# Altium schematic symbol library OOLITEV8_0_2-DEV-V1_1_17_Library.SchLib: 269 symbols (part 12 of 12)

## RTL8367RB_LQFP128EP_0
designator U?, comment RTL8367RB_LQFP128EP
pins: 1 AVDDH (power), 2 P3MDIAP (io), 3 P3MDIAN (io), 4 P3MDIBP (io), 5 P3MDIBN (io), 6 AVDDL (power), 7 P3MDICP (io), 8 P3MDICN (io), 9 P3MDIDP (io), 10 P3MDIDN (io), 11 AVDDH (power), 12 AGND (power), 13 MDIREF (oe), 14 AVDDL (power), 15 RTT1 (out), 16 RTT2 (out), 17 AVDDH (power), 18 DVDDIO (power), 19 INTERRUPT (out), 20 DIS_LPD / BUZZER (io), 21 DVDDL (power), 22 RESERVED (power), 23 AVDDH (power), 24 P4MDIAP (io), 25 P4MDIAN (io), 26 P4MDIBP (io), 27 P4MDIBN (io), 28 AVDDL (power), 29 P4MDICP (io), 30 P4MDICN (io), 31 P4MDIDP (io), 32 P4MDIDN (io), 33 AVDDH, 34 PLLVDDL1, 35 RESREVED (power), 36 AVDDH (power), 37 RESERVED (out), 38 RESERVED, 39 DVDDIO_2 (power), 40 RESERVED (power), 41 E2_DO3 (out), 42 E2_DO2 (out), 43 E2_DO1 (out), 44 E2_DO0 (out), 45 E2_DOEN (out), 46 E2_GOCLK (out), 47 E2_DICLK, 48 E2_DIDV (in), 49 E2_DI0 (in), 50 E2_DI1 (in), 51 E2_DI2 (in), 52 E2_DI3 (in), 53 DVDDL (power), 54 DVDDIO_2 (power), 55 DVDDIO_1 (in), 56 E1_CRS (in), 57 E1_DO3 (out), 58 E1_DO2 (out), 59 E1_DO1 (out), 60 E1_DO0 (out), 61 E1_DOEN (out), 62 E1_GOCLK (out), 63 E1_DICLK (in), 64 E1_DIDV (in), 65 E1_DI0 (in), 66 E1_DI1 (in), 67 E1_DI2 (in), 68 E1_DI3 (in), 69 DVDDIO_1 (power), 70 DVDDIO (power), 71 DVDDL (power), 72 DIS_SPIS / P4LED2 (out), 73 EEPROM_MOD / P4LED0 (out), 74 P4LED1 (out), 75 P3LED1 (out), 76 RESERVED / P3LED2 (out), 77 RESERVED / P3LED0 (out), 78 DIS_8051 / P2LED2 (out), 79 DISAUTOLOAD / P2LED0 (out), 80 P2LED1 (out), 81 RESERVED / P1LED2 (out), 82 RESERVED / P1LED0 (out), 83 P1LED1 (out), 84 EN_PHY / P0LED2 (out), 85 LED_DA / P0LED1 (out), 86 SMI_SEL / LED_CK / P0LED0 (out), 87 DVDDL (power), 88 AVDDH (power), 89 XTALO (out), 90 XTALI (in), 91 nRESET (in), 92 SPIS_CSI (power), 93 SCK / SPIS_CK (io), 94 SDA / SPIS_DI (io), 95 SPIS_DO (power), 96 AVDDH (power), 97 P0MDIAP (io), 98 P0MDIAN (io), 99 P0MDIBP (io), 100 P0MDIBN (io), 101 AVDDL (power), 102 P0MDICP (io), 103 P0MDICN (io), 104 P0MDIDP (io), 105 P0MDIDN (io), 106 AVDDH (power), 107 P1MDIAP (io), 108 P1MDIAN (io), 109 P1MDIBP (io), 110 P1MDIBN (io), 111 AVDDL (power), 112 P1MDICP (io), 113 P1MDICN (io), 114 P1MDIDP (io), 115 P1MDIDN (io), 116 PLLVDDL0 (power), 117 ATESTCK0 (power), 118 PLLGND0 (power), 119 AVDDH (power), 120 P2MDIAP (io), 121 P2MDIAN (io), 122 P2MDIBP (io), 123 P2MDIBN (io), 124 AVDDL (power), 125 P2MDICP (io), 126 P2MDICN (io), 127 P2MDIDP (io), 128 P2MDIDN (io), 129 GND
text: RTL8367RB

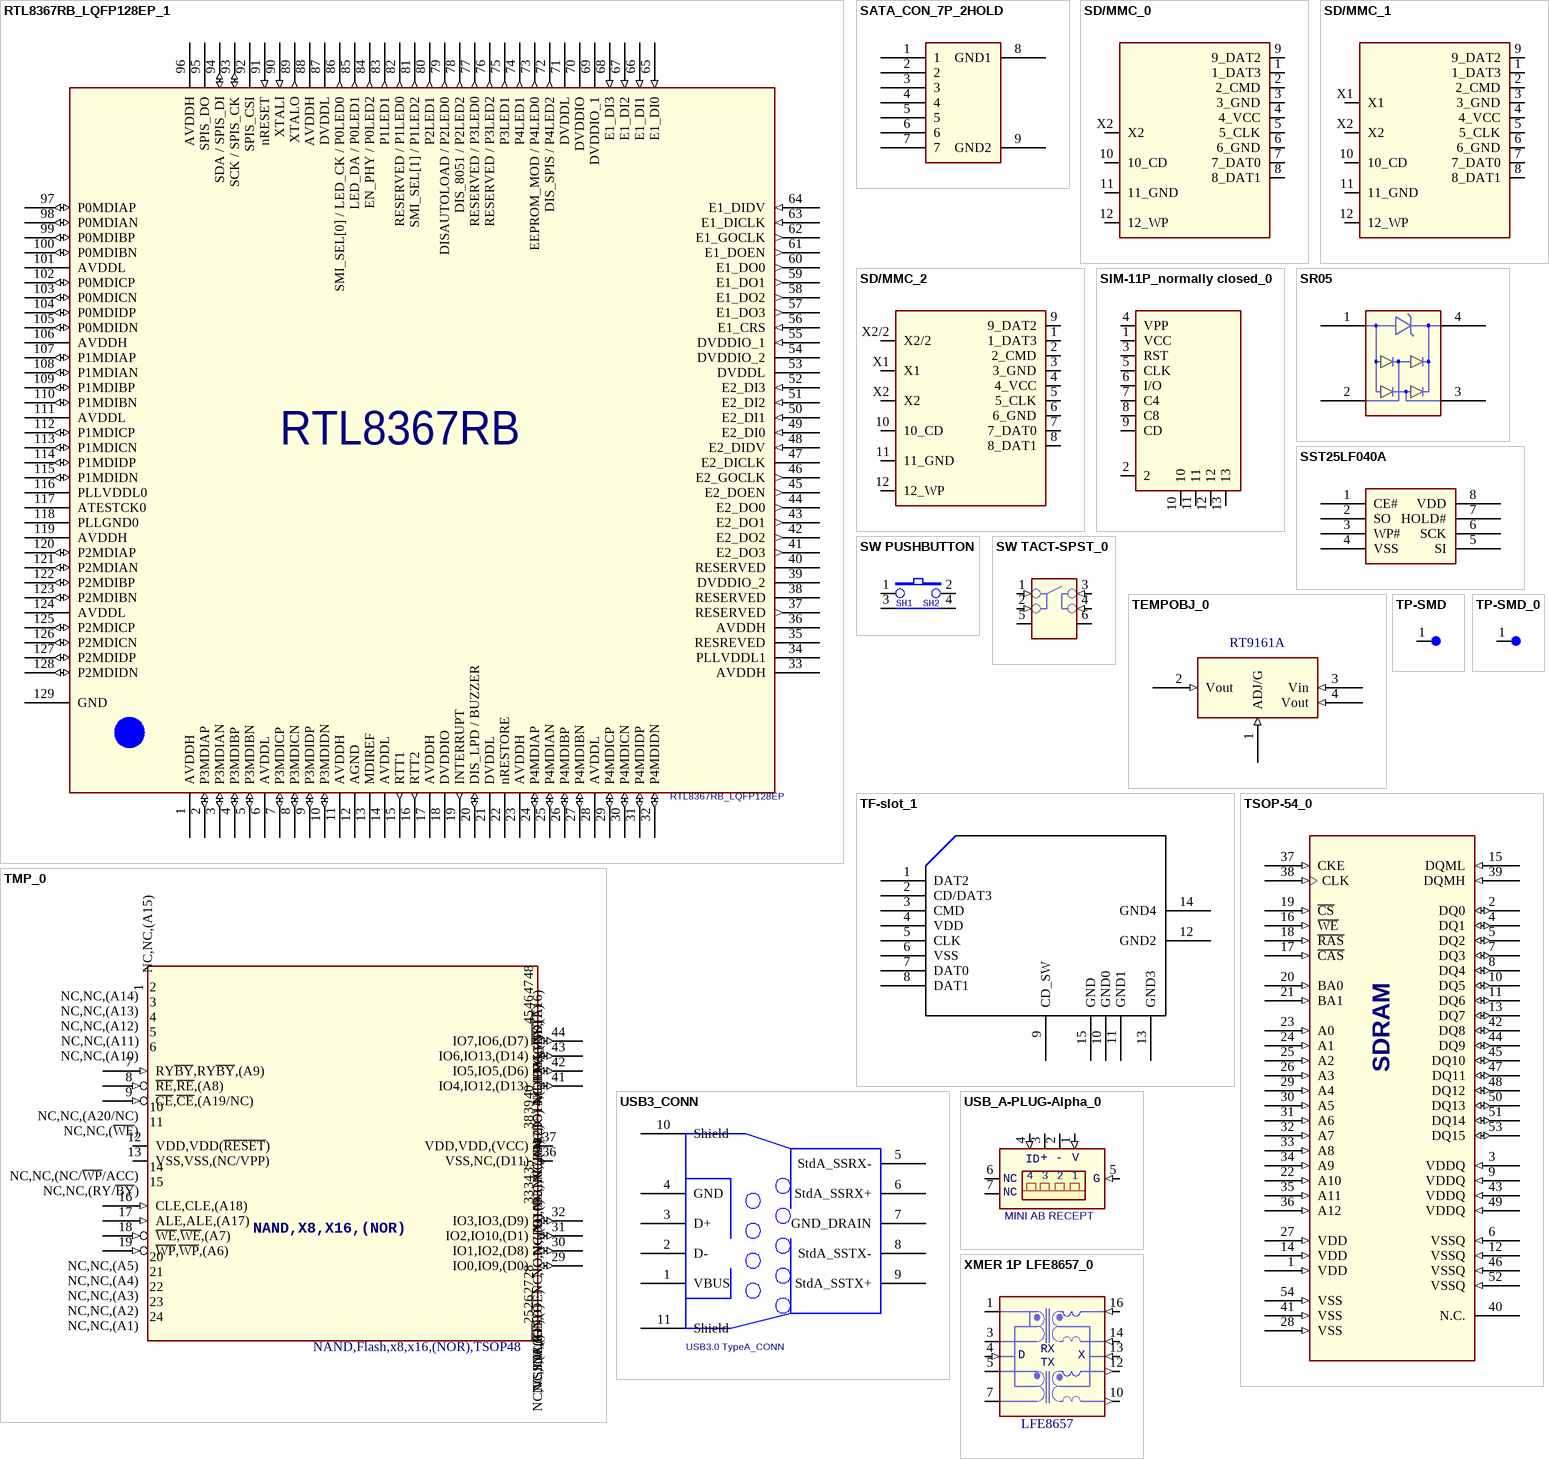
[diagram p137: symbols RTL8367RB_LQFP128EP_1 to XMER 1P LFE8657_0]

## RTL8367RB_LQFP128EP_1
designator U?, comment RTL8367RB_LQFP128EP
pins: 1 AVDDH (power), 2 P3MDIAP (io), 3 P3MDIAN (io), 4 P3MDIBP (io), 5 P3MDIBN (io), 6 AVDDL (power), 7 P3MDICP (io), 8 P3MDICN (io), 9 P3MDIDP (io), 10 P3MDIDN (io), 11 AVDDH (power), 12 AGND (power), 13 MDIREF (oe), 14 AVDDL (power), 15 RTT1 (out), 16 RTT2 (out), 17 AVDDH (power), 18 DVDDIO (power), 19 INTERRUPT (out), 20 DIS_LPD / BUZZER (io), 21 DVDDL (power), 22 nRESTORE (power), 23 AVDDH (power), 24 P4MDIAP (io), 25 P4MDIAN (io), 26 P4MDIBP (io), 27 P4MDIBN (io), 28 AVDDL (power), 29 P4MDICP (io), 30 P4MDICN (io), 31 P4MDIDP (io), 32 P4MDIDN (io), 33 AVDDH, 34 PLLVDDL1, 35 RESREVED (power), 36 AVDDH (power), 37 RESERVED (out), 38 RESERVED, 39 DVDDIO_2 (power), 40 RESERVED, 41 E2_DO3 (out), 42 E2_DO2 (out), 43 E2_DO1 (out), 44 E2_DO0 (out), 45 E2_DOEN (out), 46 E2_GOCLK (out), 47 E2_DICLK, 48 E2_DIDV (in), 49 E2_DI0 (in), 50 E2_DI1 (in), 51 E2_DI2 (in), 52 E2_DI3 (in), 53 DVDDL (power), 54 DVDDIO_2 (power), 55 DVDDIO_1 (in), 56 E1_CRS (in), 57 E1_DO3 (out), 58 E1_DO2 (out), 59 E1_DO1 (out), 60 E1_DO0 (out), 61 E1_DOEN (out), 62 E1_GOCLK (out), 63 E1_DICLK (in), 64 E1_DIDV (in), 65 E1_DI0 (in), 66 E1_DI1 (in), 67 E1_DI2 (in), 68 E1_DI3 (in), 69 DVDDIO_1 (power), 70 DVDDIO (power), 71 DVDDL (power), 72 DIS_SPIS / P4LED2 (out), 73 EEPROM_MOD / P4LED0 (out), 74 P4LED1 (out), 75 P3LED1 (out), 76 RESERVED / P3LED2 (out), 77 RESERVED / P3LED0 (out), 78 DIS_8051 / P2LED2 (out), 79 DISAUTOLOAD / P2LED0 (out), 80 P2LED1 (out), 81 SMI_SEL[1] / P1LED2 (out), 82 RESERVED / P1LED0 (out), 83 P1LED1 (out), 84 EN_PHY / P0LED2 (out), 85 LED_DA / P0LED1 (out), 86 SMI_SEL[0] / LED_CK / P0LED0 (out), 87 DVDDL (power), 88 AVDDH (power), 89 XTALO (out), 90 XTALI (in), 91 nRESET (in), 92 SPIS_CSI, 93 SCK / SPIS_CK (io), 94 SDA / SPIS_DI (io), 95 SPIS_DO, 96 AVDDH (power), 97 P0MDIAP (io), 98 P0MDIAN (io), 99 P0MDIBP (io), 100 P0MDIBN (io), 101 AVDDL (power), 102 P0MDICP (io), 103 P0MDICN (io), 104 P0MDIDP (io), 105 P0MDIDN (io), 106 AVDDH (power), 107 P1MDIAP (io), 108 P1MDIAN (io), 109 P1MDIBP (io), 110 P1MDIBN (io), 111 AVDDL (power), 112 P1MDICP (io), 113 P1MDICN (io), 114 P1MDIDP (io), 115 P1MDIDN (io), 116 PLLVDDL0 (power), 117 ATESTCK0, 118 PLLGND0 (power), 119 AVDDH (power), 120 P2MDIAP (io), 121 P2MDIAN (io), 122 P2MDIBP (io), 123 P2MDIBN (io), 124 AVDDL (power), 125 P2MDICP (io), 126 P2MDICN (io), 127 P2MDIDP (io), 128 P2MDIDN (io), 129 GND
text: RTL8367RB

## SATA_CON_7P_2HOLD
designator CON?
pins: 1, 2, 3, 4, 5, 6, 7, 8 GND1, 9 GND2

## SD/MMC_0
designator U?
pins: 1 1_DAT3, 2 2_CMD, 3 3_GND, 4 4_VCC, 5 5_CLK, 6 6_GND, 7 7_DAT0, 8 8_DAT1, 9 9_DAT2, 10 10_CD, 11 11_GND, 12 12_WP, X2

## SD/MMC_1
designator U?
pins: 1 1_DAT3, 2 2_CMD, 3 3_GND, 4 4_VCC, 5 5_CLK, 6 6_GND, 7 7_DAT0, 8 8_DAT1, 9 9_DAT2, 10 10_CD, 11 11_GND, 12 12_WP, X1, X2

## SD/MMC_2
designator U?
pins: 1 1_DAT3, 2 2_CMD, 3 3_GND, 4 4_VCC, 5 5_CLK, 6 6_GND, 7 7_DAT0, 8 8_DAT1, 9 9_DAT2, 10 10_CD, 11 11_GND, 12 12_WP, X1, X2, X2/2

## SIM-11P_normally closed_0
designator J?
pins: 1 VCC, 2, 3 RST, 4 VPP, 5 CLK, 6 I/O, 7 C4, 8 C8, 9 CD, 10, 11, 12, 13

## SR05
designator U?
pins: 1 PIN1, 2 PIN2, 3 PIN3, 4 PIN4

## SST25LF040A
designator U?
pins: 1 CE#, 2 SO, 3 WP#, 4 VSS, 5 SI, 6 SCK, 7 HOLD#, 8 VDD

## SW PUSHBUTTON
designator SW?
pins: 1, 2, 3 SH1 (power), 4 SH2 (power)

## SW TACT-SPST_0
designator S?
footprint SW6P
pins: 1 (in), 2 (in), 3 (in), 4 (in), 5 -, 6 +

## TEMPOBJ_0
designator U?, comment RT9161A
footprint SOT-223
pins: 1 ADJ/G (in), 2 Vout (in), 3 Vin (in), 4 Vout (in)

## TF-slot_1
designator CN?
footprint SD-6
pins: 1 DAT2, 2 CD/DAT3, 3 CMD, 4 VDD (power), 5 CLK, 6 VSS (power), 7 DAT0, 8 DAT1, 9 CD_SW, 10 GND0, 11 GND1, 12 GND2, 13 GND3, 14 GND4, 15 GND

## TMP_0
designator U?, comment NAND,Flash,x8,x16,(NOR),TSOP48
P/N: 11-501-132880
footprint SOP48/20/0.5
pins: 1 NC,NC,(A15), 2 NC,NC,(A14), 3 NC,NC,(A13), 4 NC,NC,(A12), 5 NC,NC,(A11), 6 NC,NC,(A10), 7 RY~{BY},RY~{BY},(A9) (in), 8 ~{RE},~{RE},(A8) (in), 9 ~{CE},~{CE},(A19/NC) (in), 10 NC,NC,(A20/NC), 11 NC,NC,(~{WE}), 12 VDD,VDD(~{RESET}) (power), 13 VSS,VSS,(NC/VPP) (power), 14 NC,NC,(NC/~{WP}/ACC), 15 NC,NC,(RY/~{BY}), 16 CLE,CLE,(A18) (in), 17 ALE,ALE,(A17) (in), 18 ~{WE},~{WE},(A7) (in), 19 ~{WP},~{WP},(A6) (in), 20 NC,NC,(A5), 21 NC,NC,(A4), 22 NC,NC,(A3), 23 NC,NC,(A2), 24 NC,NC,(A1), 25 NC,VSS,(A0), 26 NC,IO0,(~{CE}), 27 NC,IO8,(GND), 28 NC,IO1,(~{OE}), 29 IO0,IO9,(D0) (io), 30 IO1,IO2,(D8) (io), 31 IO2,IO10,(D1) (io), 32 IO3,IO3,(D9) (io), 33 NC,IO11,(D2), 34 NC,NC,(D10), 35 NC,NC,(D3), 36 VSS,NC,(D11) (power), 37 VDD,VDD,(VCC) (power), 38 NC,NC,(D4), 39 NC,NC,(D12), 40 NC,IO4,(D5), 41 IO4,IO12,(D13) (io), 42 IO5,IO5,(D6) (io), 43 IO6,IO13,(D14) (io), 44 IO7,IO6,(D7) (io), 45 NC,IO14,(D15/A_1), 46 NC,IO7,(GND), 47 NC,IO15,(~{BYTE}), 48 NC,VSS,(A16)
text: NAND,X8,X16,(NOR)

## TP-SMD
designator TP?  (value not drawn)
footprint TP-SMD
pins: 1

## TP-SMD_0
designator TP?  (value not drawn)
footprint TP-SMD
pins: 1 (io)

## TSOP-54_0
designator U?
pins: 1 VDD (in), 2 DQ0 (io), 3 VDDQ (in), 4 DQ1 (io), 5 DQ2 (io), 6 VSSQ (in), 7 DQ3 (io), 8 DQ4 (io), 9 VDDQ (in), 10 DQ5 (io), 11 DQ6 (io), 12 VSSQ (in), 13 DQ7 (io), 14 VDD (in), 15 DQML (in), 16 ~{WE} (in), 17 ~{CAS} (in), 18 ~{RAS} (in), 19 ~{CS} (in), 20 BA0 (in), 21 BA1 (in), 22 A10 (in), 23 A0 (in), 24 A1 (in), 25 A2 (in), 26 A3 (in), 27 VDD (in), 28 VSS (in), 29 A4 (in), 30 A5 (in), 31 A6 (in), 32 A7 (in), 33 A8 (in), 34 A9 (in), 35 A11 (in), 36 A12 (in), 37 CKE (in), 38 CLK (in), 39 DQMH (in), 40 N.C., 41 VSS (in), 42 DQ8 (io), 43 VDDQ (in), 44 DQ9 (io), 45 DQ10 (io), 46 VSSQ (in), 47 DQ11 (io), 48 DQ12 (io), 49 VDDQ (in), 50 DQ13 (io), 51 DQ14 (io), 52 VSSQ (in), 53 DQ15 (io), 54 VSS (in)
text: SDRAM

## USB3_CONN
designator U?, comment USB3.0 TypeA_CONN
pins: 1 VBUS, 2 D-, 3 D+, 4 GND, 5 StdA_SSRX-, 6 StdA_SSRX+, 7 GND_DRAIN, 8 StdA_SSTX-, 9 StdA_SSTX+, 10 Shield, 11 Shield

## USB_A-PLUG-Alpha_0
designator J?, comment MINI AB RECEPT
Schematics' Source Library: C:\MSim_8\UserLib\vnet2.slb
footprint USB-A-PLUG-Alpha
pins: 1 V+ (in), 2 D- (hiz), 3 D+ (hiz), 4 G (in), 5 G (in), 6 NC, 7 NC
text: ID; +; -; V

## XMER 1P LFE8657_0
designator U?, comment LFE8657
footprint DIP-16PIN-2010
pins: 1 RD+ (io), 3 RD- (io), 4 CT (in), 5 TD+ (io), 7 TD- (io), 10 TX- (out), 12 TX+ (out), 13 CG (in), 14 RX- (in), 16 RX+ (in)
text: RX; D; X; TX

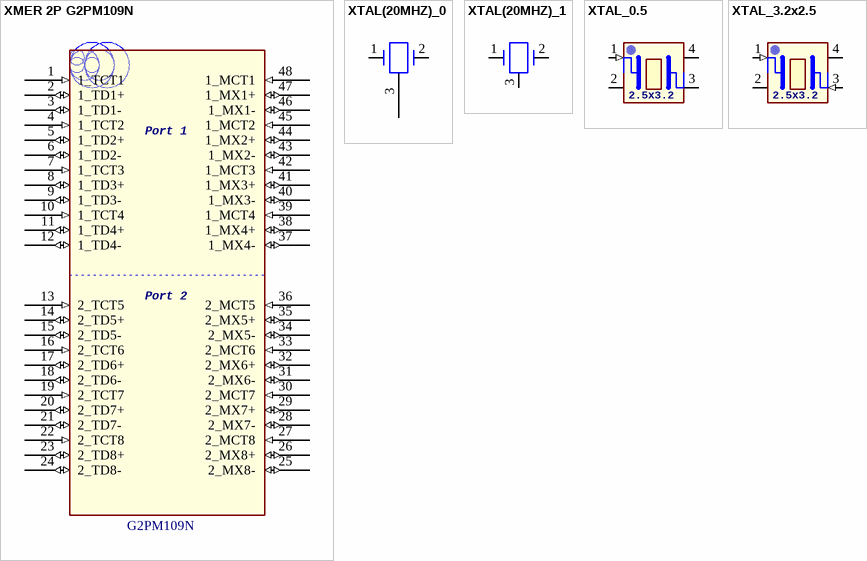
[diagram p138: symbols XMER 2P G2PM109N to XTAL_3.2x2.5]

## XMER 2P G2PM109N
designator T?, comment G2PM109N
footprint DIP-48PIN-2705
pins: 1 1_TCT1 (in), 2 1_TD1+ (io), 3 1_TD1- (io), 4 1_TCT2 (in), 5 1_TD2+ (io), 6 1_TD2- (io), 7 1_TCT3 (in), 8 1_TD3+ (io), 9 1_TD3- (io), 10 1_TCT4 (in), 11 1_TD4+ (io), 12 1_TD4- (io), 13 2_TCT5 (in), 14 2_TD5+ (io), 15 2_TD5- (io), 16 2_TCT6 (in), 17 2_TD6+ (io), 18 2_TD6- (io), 19 2_TCT7 (in), 20 2_TD7+ (io), 21 2_TD7- (io), 22 2_TCT8 (in), 23 2_TD8+ (io), 24 2_TD8- (io), 25 2_MX8- (io), 26 2_MX8+ (io), 27 2_MCT8 (in), 28 2_MX7- (io), 29 2_MX7+ (io), 30 2_MCT7 (in), 31 2_MX6- (io), 32 2_MX6+ (io), 33 2_MCT6 (in), 34 2_MX5- (io), 35 2_MX5+ (io), 36 2_MCT5 (in), 37 1_MX4- (io), 38 1_MX4+ (io), 39 1_MCT4 (in), 40 1_MX3- (io), 41 1_MX3+ (io), 42 1_MCT3 (in), 43 1_MX2- (io), 44 1_MX2+ (io), 45 1_MCT2 (in), 46 1_MX1- (io), 47 1_MX1+ (io), 48 1_MCT1 (in)
text: Port 1; Port 2

## XTAL(20MHZ)_0
designator U?
Parnt_desc: XTAL 20MHz 30ppm HC-49/U; Parent: 24-020060-40
footprint DIP
pins: 1, 2, 3

## XTAL(20MHZ)_1
designator U?
Parnt_desc: XTAL 20MHz 30ppm HC-49/U; Parent: 24-020060-40
footprint DIP
pins: 1, 2, 3

## XTAL_0.5
designator U?
footprint XTAL-SMD/3.2X2.5
pins: 1 X1 (in), 2 NC, 3 X2, 4 NC
text: 2.5x3.2

## XTAL_3.2x2.5
designator U?
footprint XTAL-SMD/3.2X2.5
pins: 1 X1 (in), 2 NC, 3 X2 (in), 4 NC
text: 2.5x3.2